# EAGLE library part RESISTOR-ARRAY-8X (library GW-devices)
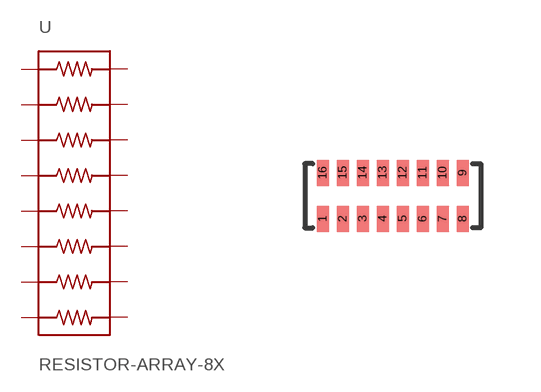
[diagram p36: symbol with the pads of YC248; footprint YC248]

Designator prefix -

## RESISTOR-ARRAY-8X  [YC248]
1  1A  pas
2  2A  pas
3  3A  pas
4  4A  pas
5  5A  pas
6  6A  pas
7  7A  pas
8  8A  pas
9  8B  pas
10  7B  pas
11  6B  pas
12  5B  pas
13  4B  pas
14  3B  pas
15  2B  pas
16  1B  pas

## Footprint YC248 (pad centres in mm)
smd 0.3 x 0.65: 1 -1.75,-0.575; 2 -1.25,-0.575; 3 -0.75,-0.575; 4 -0.25,-0.575; 5 0.25,-0.575; 6 0.75,-0.575; 7 1.25,-0.575; 8 1.75,-0.575; 9 1.75,0.575; 10 1.25,0.575; 11 0.75,0.575; 12 0.25,0.575; 13 -0.25,0.575; 14 -0.75,0.575; 15 -1.25,0.575; 16 -1.75,0.575